# Altium footprint library WG-LOCK.PcbLib: 52 footprints (part 2 of 4)
Each footprint in its own frame and in the unit in brackets; x right, y up, seen from the top. Pads: shape width x height; smd on the part's side, far side on the other; paste and mask are expansions set on the pad; w line width, h text height; cw(c..) or ccw(c..) is an arc to the next point about the centre after c.
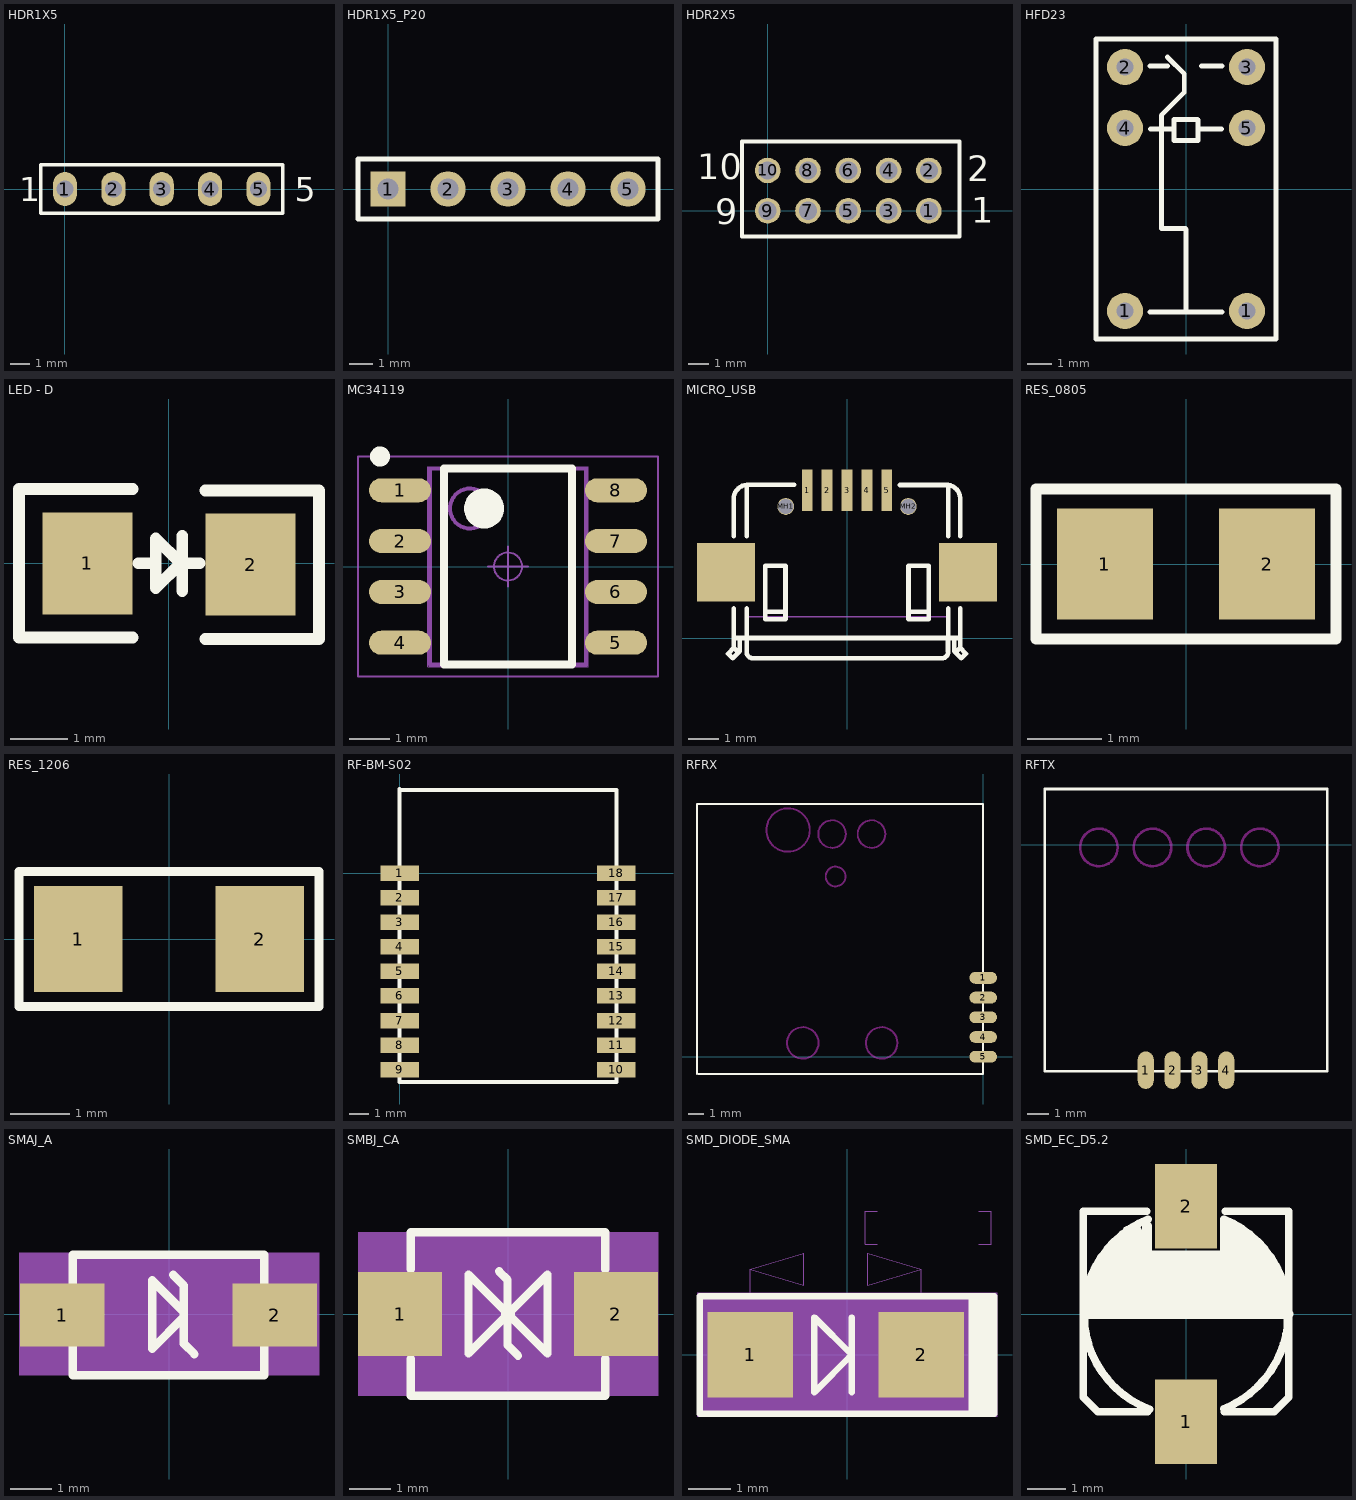
[diagram p1: the footprints below, top view; thin cyan lines are the x and y axes]

## HDR1X5 [mm] "Connector; Header; 5x2 Position"
pads (5):
  oval 1.27x1.778 hole 0.9: 1(0,0) 2(2.54,0) 3(5.08,0) 4(7.62,0) 5(10.16,0)
Top Overlay:
  lines w0.2: -1.27,-1.27 11.43,-1.27 11.43,1.27 -1.27,1.27 -1.27,-1.27
  text "1" at -2.413,-0.635 h1.27
  text "5" at 12.065,-0.635 h1.27

## HDR1X5_P20 [mm] "Connector; Header; 5 Position"
pads (5):
  rect 1.5x1.5 hole 0.9: 1(0,0)
  round 1.5 hole 0.9: 2(2.54,0) 3(5.08,0) 4(7.62,0) 5(10.16,0)
Top Overlay:
  lines w0.2: -1.27,-1.27 11.43,-1.27 11.43,1.27 -1.27,1.27 -1.27,-1.27

## HDR2X5 [mm] "Connector; Header; 5x2 Position"
pads (10):
  round 1.27 hole 0.9: 1(8,0) 2(8,2) 3(6,0) 4(6,2) 5(4,0) 6(4,2) 7(2,0) 8(2,2) 9(0,0) 10(0,2)
Top Overlay:
  lines w0.2: -1.27,-1.27 -1.27,3.429 9.525,3.429 9.525,-1.27 -1.27,-1.27
  text "10" at -3.505,1.575 h1.27
  text "9" at -2.591,-0.66 h1.27
  text "1" at 10.109,-0.584 h1.27
  text "2" at 9.906,1.473 h1.27

## HFD23 [mm]
pads (6):
  round 1.5 hole 0.7: 1(-2.54,-5.08) 1(2.54,-5.08) 2(-2.54,5.08) 3(2.54,5.08) 4(-2.54,2.54) 5(2.54,2.54)
Top Overlay:
  lines w0.2: -3.75,6.25 -3.75,0 -3.75,-6.25 3.7,-6.25 ; -3.725,6.25 3.75,6.25 3.75,0 3.75,-6.25 ; -1.5,-5.125 1.5,-5.125 ; -1.5,5.125 -0.775,5.125 ; -1.475,2.5 -0.5,2.5 ; -1.025,0.35 -1.025,3.075 -0.075,4.025 -0.075,4.8 -0.775,5.5 ; -1.025,0.375 -1.025,-1.65 -0.025,-1.65 ; 0,-5.125 0,-1.675 ; 0.5,2.5 1.475,2.5 ; 0.65,5.125 1.5,5.125 ; -0.5,2.025 0.5,2.025 0.5,2.875 0.475,2.9 -0.5,2.9 -0.5,2.025

## LED - D [mil]
pads (2):
  rect 62x70 smd: 1(-56,0) 2(56,-0.98)
Top Overlay:
  lines w8: -25,-51 -103,-51 -103,51 -25,51 ; -21,0 -9,0 ; 9,-19 9,19 ; 9,0 21,0 ; 25,-51.98 103,-51.98 103,50.02 25,50.02 ; -9,-17 8,0 -9,17 -9,-17

## MC34119 [mm]
pads (8):
  oval 1.55x0.6 smd: 1(-2.7,1.905) 2(-2.7,0.635) 3(-2.7,-0.635) 4(-2.7,-1.905) 5(2.7,-1.905) 6(2.7,-0.635) 7(2.7,0.635) 8(2.7,1.905)
Top Overlay:
  circle w0.25: c-3.2,2.75 r0.125
  circle w0.5: c-0.6,1.45 r0.25
  lines w0.2: -1.6,-2.45 -1.6,2.45 1.6,2.45 1.6,-2.45 -1.6,-2.45
Mechanical 15:
  circle w0.1: c-0.95,1.45 r0.5
  lines w0.1: -1.95,-2.45 -1.95,2.45 1.95,2.45 1.95,-2.45 -1.95,-2.45
  text "1" at 0.45,-0.164 h0.75
Mechanical 16:
  circle w0.05: c0,0 r0.35
  lines w0.001: -2,-2.5 -2,2.5 2,2.5 2,-2.5 -2,-2.5
  lines w0.05: -0.5,0 0.5,0 ; 0,-0.5 0,0.5 ; -3.75,-2.75 -3.75,2.75 3.75,2.75 3.75,-2.75 -3.75,-2.75

## MICRO_USB [mm]
pads (9):
  rect 0.35x1.35 smd: 1(-1.3,4.825) 2(-0.65,4.825) 3(0,4.825) 4(0.65,4.825) 5(1.3,4.825)
  round 0.55 hole 0.5: MH1(-2,4.3) MH2(2,4.3)
  rect 1.9x1.9 smd: ""(-3.95,2.15) ""(3.95,2.15)
Top Overlay:
  lines w0.152: -3.7,0.965 -3.7,0 ; -3.697,3.327 -3.697,4.608 cw(c-3.251,4.555) -3.277,5.003 ; -3.505,0 -3.505,-0.432 ; -3.277,0.965 -3.277,0 -3.277,-0.457 ccw(c-3.073,-0.457) -3.048,-0.658 3.101,-0.658 ccw(c3.1,-0.455) 3.302,-0.43 3.302,0 3.302,0.965 ; -3.277,3.328 -3.277,5.003 ; -1.727,5.003 -3.277,5.003 ; 1.731,5 3.302,5 ; 3.302,3.327 3.302,5 ; 3.531,0 3.505,0 3.505,-0.432 3.734,-0.66 3.886,-0.508 3.7,-0.322 ; 3.59,-0.432 3.7,-0.322 ; 3.697,3.327 3.697,4.58 ccw(c3.249,4.554) 3.302,5 ; 3.7,0.974 3.7,0 ; -3.7,-0.322 -3.59,-0.432 -3.505,-0.432 ; -3.7,-0.322 -3.7,0 ; -3.7,-0.322 -3.886,-0.508 -3.734,-0.66 -3.505,-0.432 ; -3.7,0 0,0 3.7,0 ; -2.667,0.864 -2.667,2.362 -2.007,2.362 -2.007,0.864 ; -2.667,0.864 -2.007,0.864 ; -2.667,0.864 -2.667,0.61 -2.007,0.61 -2.007,0.864 ; 2.007,0.864 2.007,0.61 2.667,0.61 2.667,0.864 ; 2.007,0.864 2.667,0.864 ; 2.007,0.864 2.007,2.362 2.667,2.362 2.667,0.864 ; 3.7,-0.322 3.7,0
Mechanical 1:
  lines w0.05: -3.277,0.7 3.302,0.7

## RES_0805 [mm]
pads (2):
  rect 1.3x1.5 smd: 1(-1.1,0) 2(1.1,0)
Top Overlay:
  lines w0.152: -2.032,-1.016 -2.032,1.016 2.032,1.016 2.032,-1.016 -2.032,-1.016
Mechanical 7:
  text "1" at -1.1,-0.254 h0.64
  text "2" at 1.1,-0.254 h0.64

## RES_1206 [mm]
pads (2):
  rect 1.5x1.8 smd: 1(-1.54,0) 2(1.54,0)
Top Overlay:
  lines w0.152: -2.54,-1.143 2.54,-1.143 2.54,1.143 -2.54,1.143 -2.54,-1.143
Mechanical 7:
  text "1" at -1.1,-0.254 h0.64
  text "2" at 1.1,-0.254 h0.64
Mechanical 15:
  lines w0.1: -1.6,-1.132 1.6,-1.132

## RF-BM-S02 [mm]
pads (18):
  rect 2x0.8 smd: 1(0,0) 2(0,-1.27) 3(0,-2.54) 4(0,-3.81) 5(0,-5.08) 6(0,-6.35) 7(0,-7.62) 8(0,-8.89) 9(0,-10.16) 10(11.2,-10.16) 11(11.2,-8.89) 12(11.2,-7.62) 13(11.2,-6.35) 14(11.2,-5.08) 15(11.2,-3.81) 16(11.2,-2.54) 17(11.2,-1.27) 18(11.2,0)
Top Overlay:
  lines w0.2: 0,4.3 11.2,4.3 11.2,-10.795 0,-10.795 0,4.35

## RFRX [mil]
pads (5):
  oval 70x30 smd: 1(0,200) 2(0,150) 3(0,100) 4(0,50) 5(0,0)
Top Overlay:
  lines w5: -725.98,-44.09 -725.98,640.94 ; -725.59,641.34 0,641.34 ; -722.83,-44.09 0,-44.09 0,638.58
Keep-Out Layer:
  circle w5: c-374.49,457.17 r25
  circle w5: c-495,575 r55
  circle w5: c-383.39,564.84 r35
  circle w5: c-283.39,564.84 r35
  circle w5: c-457.64,35.04 r40
  circle w5: c-257.65,35.05 r40

## RFTX [mil]
pads (4):
  oval 30x70 smd: 1(450,-420) 2(500,-420) 3(550,-420) 4(600,-420)
Top Overlay:
  lines w5: 262,-422 788,-422 788,104 262,104 262,-422
Keep-Out Layer:
  circle w5: c362.61,-4.9 r35
  circle w5: c462.61,-4.9 r35
  circle w5: c562.61,-4.9 r35
  circle w5: c662.61,-4.9 r35

## SMAJ_A [mil] "SMAJ_A"
pads (2):
  rect 80x60 smd: 1(-101,-1) 2(100,-1)
Top Overlay:
  lines w8: 4,37 14,27 14,-28 24,-38 ; -91,-58 -91,56 90,56 90,-58 -91,-58 ; -16,-33 14,-3 14,2 -16,32 -16,-33
Mechanical 8:
  text "1" at -81,-51 h25
  text "2" at 120,-51 h25
Mechanical 9:
  text "SMAJ6A" at -16,-68 h25
Mechanical 10:
  region: -142,58 -142,-58 142,-58 142,58

## SMBJ_CA [mil] "SMBJ_CA"
pads (2):
  rect 80x80 smd: 1(-102.5,0) 2(102.5,0)
Top Overlay:
  lines w8: -92.5,-42.5 -92.5,-77.5 92.5,-77.5 92.5,-42.5 ; -92.5,42.5 -92.5,77.5 92.5,77.5 92.5,42.5 ; -8.5,40.5 -0.5,32.5 -0.5,8.5 ; -0.5,-7.5 -0.5,-29.5 9.5,-39.5 ; -2.5,-2.5 2.5,-2.5 ; -2.5,-2.5 -2.5,2.5 -37.5,37.5 -37.5,-37.5 -2.5,-2.5 ; 2.5,-2.5 2.5,2.5 37.5,37.5 37.5,-37.5 2.5,-2.5
Mechanical 8:
  text "1" at -152.5,-20 h25
  text "2" at 52.5,-20 h25
Mechanical 9:
  text "SMBJ5.0CA" at -17.5,-87.5 h25
Mechanical 10:
  region: -142.5,77.5 -142.5,-77.5 142.5,-77.5 142.5,77.5

## SMD_DIODE_SMA [mil] "SMD_DIODE_SMA"
pads (2):
  rect 80x80 smd: 1(-90.5,0) 2(69.5,0)
Top Overlay:
  pour cut-out: 114.5,-55 114.5,55 139.5,55 139.5,-55
  lines w6: 4.5,-35 4.5,35 ; 117,-55 117,55 ; 122,-55 122,55 ; 127,-55 127,55 ; 132,-55 132,55 ; -138,-55 138,-55 138,55 -138,55 -138,-55 ; -30.5,-35 4.5,0 -30.5,35 -30.5,-35
Mechanical 8:
  text "1" at -100.5,0 h25
  text "2" at 59.5,0 h25
Mechanical 10:
  region: -140.5,-58 -140.5,58 140.5,58 140.5,-58
Mechanical 11:
  lines w1: -90.5,0 -90.5,80 ; 28.5,103.5 17,103.5 17,134.5 28.5,134.5 ; 69.5,0 69.5,80 ; 123.5,103.5 135,103.5 135,134.5 123.5,134.5 ; -90.5,80 -40.5,65 -40.5,95 -90.5,80 ; 69.5,80 19.5,95 19.5,65 69.5,80
  text "4.06" at 29.5,105 h45
  text "160.00" at -135.5,105 h45

## SMD_EC_D5.2 [mm]
pads (2):
  rect 1.6x2.2 smd: 1(0,-2.794) 2(0,2.794)
Top Overlay:
  lines w0.2: -1.016,2.667 -2.667,2.667 -2.667,-2.159 -2.286,-2.54 -1,-2.54 ; -0.984,2.46 ccw(c0,0) -2.65,0 ccw(c0,0) -0.943,-2.476 ; 0.984,-2.46 ccw(c0,0) 2.65,0 ccw(c0,0) 0.984,2.46 ; 1,-2.54 2.286,-2.54 2.667,-2.159 2.667,2.667 1.016,2.667
  lines w0.254: -2.54,0 2.667,0 ; -2.413,0.127 -2.413,0.889 ; -2.286,0.127 -2.286,1.27 -2.032,1.524 ; -2.032,0.127 -2.032,1.651 -1.778,1.905 -1.778,0.127 ; -1.524,0.127 -1.524,2.159 ; -1.27,0.127 -1.27,2.159 ; -1.016,0.127 -1.016,2.286 ; -0.889,1.524 0.889,1.524 ; -0.762,0.127 -0.762,1.397 ; -0.508,0.127 -0.508,1.397 ; -0.254,0.127 -0.254,1.397 ; 0,0.127 0,1.397 ; 0.254,0.127 0.254,1.397 ; 0.508,0.127 0.508,1.397 ; 0.762,0.127 0.762,1.397 ; 1.016,0.127 1.016,2.413 ; 1.143,2.286 1.27,2.159 1.27,0.127 ; 1.397,2.159 1.524,2.032 1.524,0.127 ; 1.651,2.032 1.778,1.905 1.778,0.127 ; 1.905,1.778 2.032,1.651 2.032,0.127 ; 2.159,1.397 2.286,1.27 2.286,0.127 ; 2.413,0.127 2.413,0.889